# Altium schematic symbol library Conn,Jack,Banana,Thru,Right,Black.Schlib: 1 symbol
Pins are listed as number, name and electrical type; pins without a type are passive.

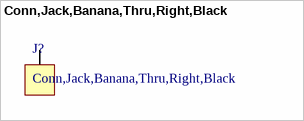
[diagram p0: symbol Conn,Jack,Banana,Thru,Right,Black]

## Conn,Jack,Banana,Thru,Right,Black
designator J?
Banana Jack Connector Standard Banana Solder Black
pins: 1 PIN